# EAGLE library part 7-SEG_0.56INCH (library v11)
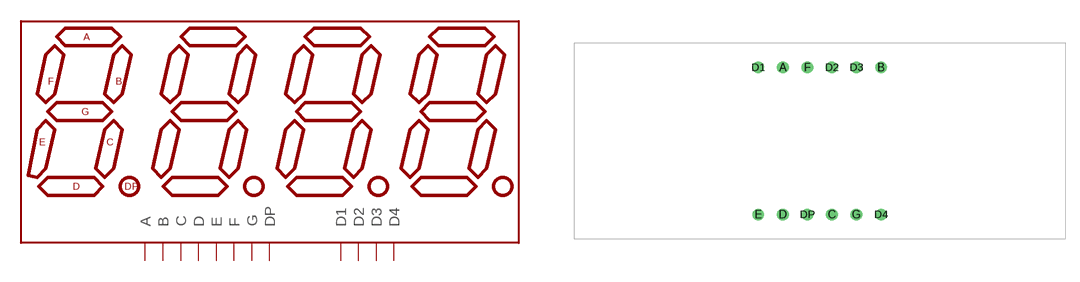
[diagram p1: symbol with the pads of 7SEG_0.56INCH; footprint 7SEG_0.56INCH]

Designator prefix D

## 7-SEG_0.56INCH  [7SEG_0.56INCH]
A  A
B  B
C  C
D  D
D1  D1
D2  D2
D3  D3
D4  D4
DP  DP
E  E
F  F
G  G

## Footprint 7SEG_0.56INCH (pad centres in mm)
drill 0.7: A 2.54,15.24; B 12.7,15.24; C 7.62,0; D 2.54,0; D1 0,15.24; D2 7.62,15.24; D3 10.16,15.24; D4 12.7,0; DP 5.08,0; E 0,0; F 5.08,15.24; G 10.16,0